# EAGLE library part 74LVC1G123DCT (library Traficon)
CT: 26-08-2008: new package according to data from TI.
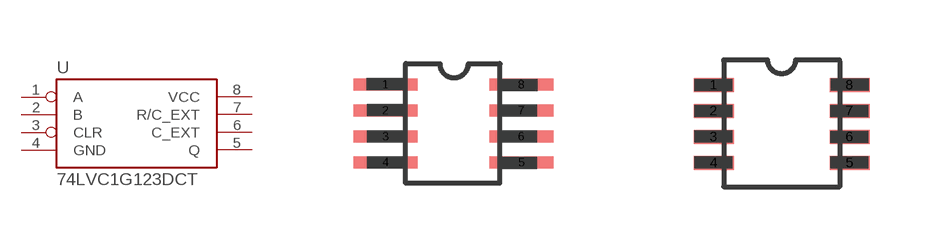
[diagram p202: symbol with the pads of DCT8; footprints DCT8, DCT8_PVS]

Designator prefix U

## 74LVC1G123DCT  [DCT8]
1  A  in
2  B  in
3  CLR  in
4  GND  sup
5  Q  out
6  C_EXT  pas
7  R/C_EXT  pas
8  VCC  sup

## 74LVC1G123DCTPVS  [DCT8_PVS]
Pads as for DCT8

## Footprint DCT8 (pad centres in mm)
smd 1.6 x 0.3: 1 -1.27,0.68; 2 -1.27,0.03; 3 -1.27,-0.62; 4 -1.27,-1.27; 5 2.13,-1.27; 6 2.13,-0.62; 7 2.13,0.03; 8 2.13,0.68

## Footprint DCT8_PVS (pad centres in mm)
smd 1 x 0.35: 1 -1.7,0.975; 2 -1.7,0.325; 3 -1.7,-0.325; 4 -1.7,-0.975; 5 1.7,-0.975; 6 1.7,-0.325; 7 1.7,0.325; 8 1.7,0.975